# Altium integrated library Renesas Microprocessor SuperH.IntLib: 433 symbols (part 24 of 62)
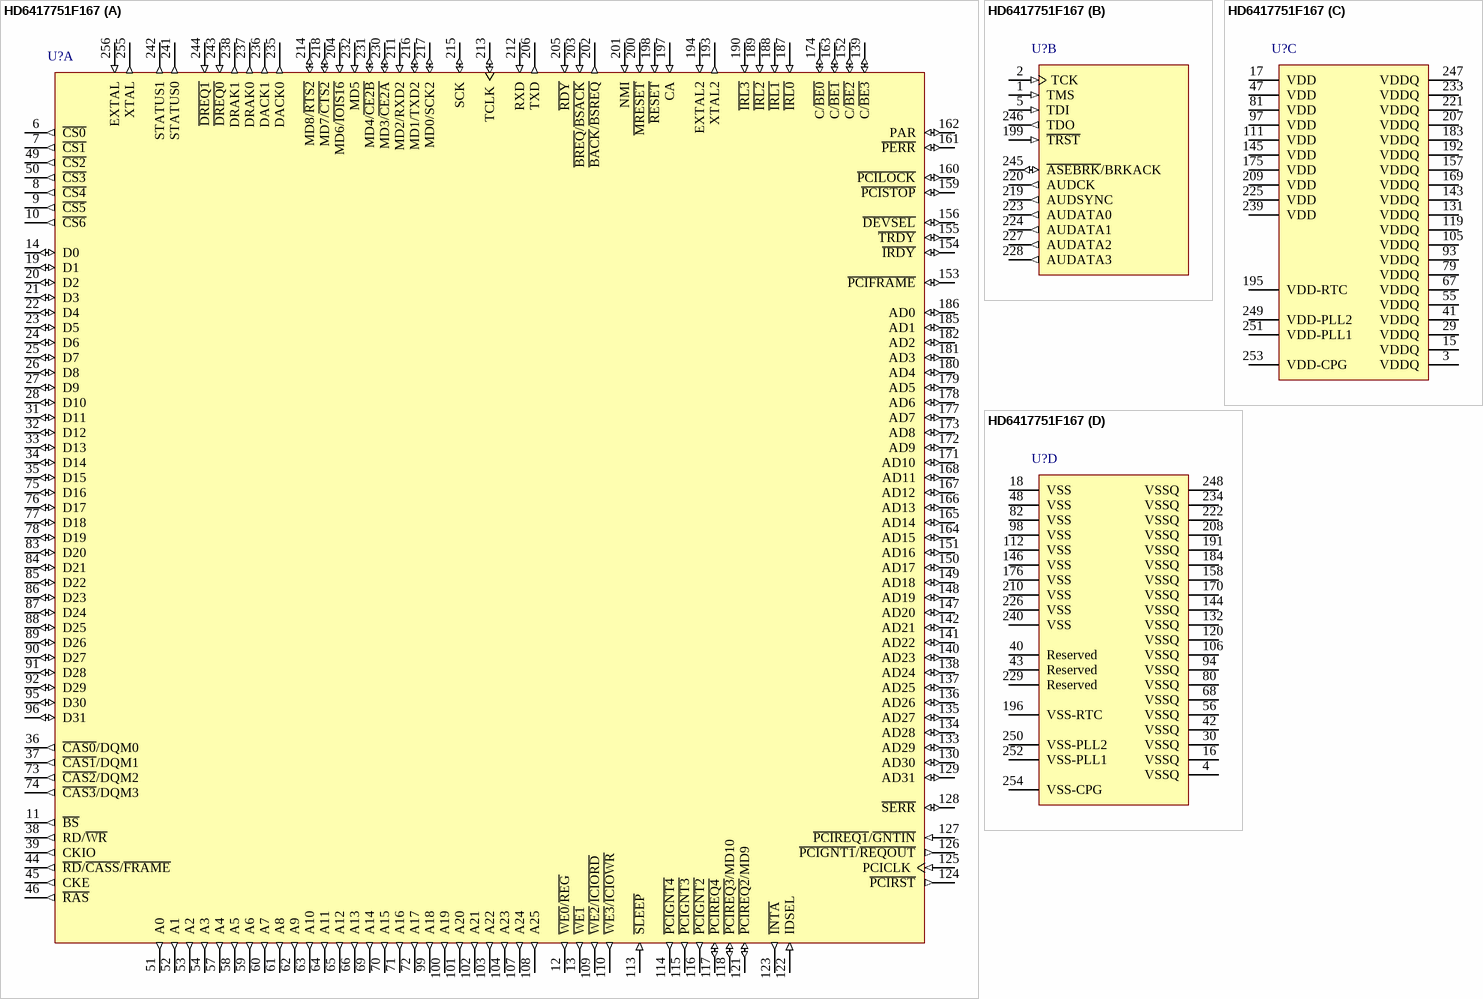
[diagram p396: symbol HD6417751F167]

## HD6417751F167
designator U?
32-Bit RISC Microcomputer, SH7750 Series, SH-4 core, 1.8V 167MHz, 256-pin QFP, -20 to 75°C; Published: 28-Aug-2009; DatasheetVersion: Rev.4.00, Oct-2008; PackageVersion: Sep-2005; PackageReference: PRQP0256LA-B; Publisher: Altium Limited; PackageDescription: 256-Pin Plastic Quad Flat Pack, 28 x 28 x 3.2 mm Body, 0.4 mm Pitch; Supplier 1: Digi-Key; Supplier Part Number 1: HD6417751F167-ND; Code_JEITA: P-HQFP256-28x28-0.40; ComponentLink1Description: Manufacturer Link; ComponentLink1URL: http://www.renesas.com/fmwk.jsp?cnt=sh7751_root.jsp&fp=/products/mpumcu/superh_family/sh7750_series/sh7751_group/; ComponentLink2Description: Datasheet; ComponentLink2URL: http://documentation.renesas.com/eng/products/mpumcu/rej09b0370_7751hm.pdf; ComponentLink3Description: Packaging Specification; ComponentLink3URL: http://sg.renesas.com/media/products/common_info/package/pdf/ic/code/prqp0256la_b.pdf
footprint PRQP0256LA-B_N (Shrink QFP, 256-Leads, Body 28x28mm, Pitch 0.4mm, IPC Medium Density)
footprint PRQP0256LA-B_L (Shrink QFP, 256-Leads, Body 28x28mm, Pitch 0.4mm, IPC High Density)
footprint PRQP0256LA-B_M (Shrink QFP, 256-Leads, Body 28x28mm, Pitch 0.4mm, IPC Low Density)
part A pins: 6 ~{CS0} (out) "Chip select 0", 7 ~{CS1} (out) "Chip select 1", 8 ~{CS4} (out) "Chip select 4", 9 ~{CS5} (out) "Chip select 5", 10 ~{CS6} (out) "Chip select 6", 11 ~{BS} (out) "Bus start", 12 ~{WE0}/~{REG} (out) "D7–D0 select signal", 13 ~{WE1} (out) "D15-D8 select signal", 14 D0 (io) "Data", 19 D1 (io) "Data", 20 D2 (io) "Data", 21 D3 (io) "Data", 22 D4 (io) "Data", 23 D5 (io) "Data", 24 D6 (io) "Data", 25 D7 (io) "Data", 26 D8 (io) "Data", 27 D9 (io) "Data", 28 D10 (io) "Data", 31 D11 (io) "Data", 32 D12 (io) "Data", 33 D13 (io) "Data", 34 D14 (io) "Data", 35 D15 (io) "Data", 36 ~{CAS0}/DQM0 (out) "D7–D0 select signal", 37 ~{CAS1}/DQM1 (out) "D15–D8 select signal", 38 RD/~{WR} (out) "Read/write", 39 CKIO (out) "Clock output", 44 ~{RD}/~{CASS}/~{FRAME} (out) "Read/CAS/FRAME", 45 CKE (out) "Clock output enable", 46 ~{RAS} (out) "RAS", 49 ~{CS2} (out) "Chip select 2", 50 ~{CS3} (out) "Chip select 3", 51 A0 (out) "Address", 52 A1 (out) "Address", 53 A2 (out) "Address", 54 A3 (out) "Address", 57 A4 (out) "Address", 58 A5 (out) "Address", 59 A6 (out) "Address", 60 A7 (out) "Address", 61 A8 (out) "Address", 62 A9 (out) "Address", 63 A10 (out) "Address", 64 A11 (out) "Address", 65 A12 (out) "Address", 66 A13 (out) "Address", 69 A14 (out) "Address", 70 A15 (out) "Address", 71 A16 (out) "Address", 72 A17 (out) "Address", 73 ~{CAS2}/DQM2 (out) "D23–D16 select signal", 74 ~{CAS3}/DQM3 (out) "D31–D24 select signal", 75 D16 (io) "Data", 76 D17 (io) "Data", 77 D18 (io) "Data", 78 D19 (io) "Data", 83 D20 (io) "Data", 84 D21 (io) "Data", 85 D22 (io) "Data", 86 D23 (io) "Data", 87 D24 (io) "Data", 88 D25 (io) "Data", 89 D26 (io) "Data", 90 D27 (io) "Data", 91 D28 (io) "Data", 92 D29 (io) "Data", 95 D30 (io) "Data", 96 D31 (io) "Data", 99 A18 (out) "Address", 100 A19 (out) "Address", 101 A20 (out) "Address", 102 A21 (out) "Address", 103 A22 (out) "Address", 104 A23 (out) "Address", 107 A24 (out) "Address", 108 A25 (out) "Address", 109 ~{WE2}/~{ICIORD} (out) "D23–D16 select signal", 110 ~{WE3}/~{ICIOWR} (out) "D31–D24 select signal", 113 ~{SLEEP} (in) "Sleep", 114 ~{PCIGNT4} (out) "Bus grant (host function)", 115 ~{PCIGNT3} (out) "Bus grant (host function)", 116 ~{PCIGNT2} (out) "Bus grant (host function)", 117 ~{PCIREQ4} (io) "Bus request (host function)", 118 ~{PCIREQ3}/MD10 (io) "Bus request (host function)/mode", 121 ~{PCIREQ2}/MD9 (io) "Bus request (host function)/mode", 122 IDSEL (in) "Configuration device select", 123 ~{INTA} (out) "Interrupt (async)", 124 ~{PCIRST} (out) "Reset output", 125 PCICLK (in) "PCI input clock", 126 ~{PCIGNT1}/~{REQOUT} (out) "Bus grant (host function)/bus request", 127 ~{PCIREQ1}/~{GNTIN} (in) "Bus request (host function)/bus grant", 128 ~{SERR} (io) "System error", 129 AD31 (io) "PCI address/data/port", 130 AD30 (io) "PCI address/data/port", 133 AD29 (io) "PCI address/data/port", 134 AD28 (io) "PCI address/data/port", 135 AD27 (io) "PCI address/data/port", 136 AD26 (io) "PCI address/data/port", 137 AD25 (io) "PCI address/data/port", 138 AD24 (io) "PCI address/data/port", 139 C/~{BE3} (io) "Command/byte enable", 140 AD23 (io) "PCI address/data/port", 141 AD22 (io) "PCI address/data/port", 142 AD21 (io) "PCI address/data/port", 147 AD20 (io) "PCI address/data/port", 148 AD19 (io) "PCI address/data/port", 149 AD18 (io) "PCI address/data/port", 150 AD17 (io) "PCI address/data/port", 151 AD16 (io) "PCI address/data/port", 152 C/~{BE2} (io) "Command/byte enable", 153 ~{PCIFRAME} (io) "Bus cycle", 154 ~{IRDY} (io) "Initiator ready", 155 ~{TRDY} (io) "Target ready", 156 ~{DEVSEL} (io) "Device select", 159 ~{PCISTOP} (io) "Transaction stop", 160 ~{PCILOCK} (io) "Exclusive access", 161 ~{PERR} (io) "Parity error", 162 PAR (io) "Parity", 163 C/~{BE1} (io) "Command/byte enable", 164 AD15 (io) "PCI address/data/port", 165 AD14 (io) "PCI address/data/port", 166 AD13 (io) "PCI address/data/port", 167 AD12 (io) "PCI address/data/port", 168 AD11 (io) "PCI address/data/port", 171 AD10 (io) "PCI address/data/port", 172 AD9 (io) "PCI address/data/port", 173 AD8 (io) "PCI address/data/port", 174 C/~{BE0} (io) "Command/byte enable", 177 AD7 (io) "PCI address/data/port", 178 AD6 (io) "PCI address/data/port", 179 AD5 (io) "PCI address/data/port", 180 AD4 (io) "PCI address/data/port", 181 AD3 (io) "PCI address/data/port", 182 AD2 (io) "PCI address/data/port", 185 AD1 (io) "PCI address/data/port", 186 AD0 (io) "PCI address/data/port", 187 ~{IRL0} (in) "Interrupt 0", 188 ~{IRL1} (in) "Interrupt 1", 189 ~{IRL2} (in) "Interrupt 2", 190 ~{IRL3} (in) "Interrupt 3", 193 XTAL2 (out) "RTC crystal resonator pin", 194 EXTAL2 (in) "RTC crystal resonator pin", 197 CA (in) "Hardware standby", 198 ~{RESET} (in) "Reset", 200 ~{MRESET} (in) "Manual reset", 201 NMI (in) "Nonmaskable interrupt", 202 ~{BACK}/~{BSREQ} (out) "Bus acknowledge/bus request", 203 ~{BREQ}/~{BSACK} (in) "Bus request/bus acknowledge", 204 MD6/~{IOIS16} (in) "Mode/IOIS16 (PCMCIA)", 205 ~{RDY} (in) "Bus ready", 206 TXD (out) "SCI data output", 211 MD2/RXD2 (in) "Mode/SCIF data input", 212 RXD (in) "SCI data input", 213 TCLK (io) "RTC/TMU clock", 214 MD8/~{RTS2} (io) "Mode/SCIF data control (RTS)", 215 SCK (io) "SCIF clock", 216 MD1/TXD2 (io) "Mode/SCIF data output", 217 MD0/SCK2 (io) "Mode/SCIF clock", 218 MD7/~{CTS2} (io) "Mode/SCIF data control (CTS)", 230 MD3/~{CE2A} (io) "Mode/PCMCIA-CE", 231 MD4/~{CE2B} (io) "Mode/PCMCIA-CE", 232 MD5 (in) "Mode", 235 DACK0 (out) "DMAC0 bus acknowledge", 236 DACK1 (out) "DMAC1 bus acknowledge", 237 DRAK0 (out) "DMAC0 request acknowledge", 238 DRAK1 (out) "DMAC1 request acknowledge", 241 STATUS0 (out) "Status", 242 STATUS1 (out) "Status", 243 ~{DREQ0} (in) "Request from DMAC0", 244 ~{DREQ1} (in) "Request from DMAC1", 255 XTAL (out) "Crystal resonator", 256 EXTAL (in) "External input clock/crystal resonator"
part B pins: 1 TMS (in) "Mode (H-UDI)", 2 TCK (in) "Clock (H-UDI)", 5 TDI (in) "Data in (H-UDI)", 199 ~{TRST} (in) "Reset (H-UDI)", 219 AUDSYNC (out) "AUDsync", 220 AUDCK (out) "AUDclock", 223 AUDATA0 (out) "AUDdata", 224 AUDATA1 (out) "AUDdata", 227 AUDATA2 (out) "AUDdata", 228 AUDATA3 (out) "AUDdata", 245 ~{ASEBRK}/BRKACK (io) "Pin break/acknowledge (H-UDI)", 246 TDO (out) "Data out (H-UDI)"
part C pins: 3 VDDQ (power) "IO VDD", 15 VDDQ (power) "IO VDD", 17 VDD (power) "Internal VDD", 29 VDDQ (power) "IO VDD", 41 VDDQ (power) "IO VDD", 47 VDD (power) "Internal VDD", 55 VDDQ (power) "IO VDD", 67 VDDQ (power) "IO VDD", 79 VDDQ (power) "IO VDD", 81 VDD (power) "Internal VDD", 93 VDDQ (power) "IO VDD", 97 VDD (power) "Internal VDD", 105 VDDQ (power) "IO VDD", 111 VDD (power) "Internal VDD", 119 VDDQ (power) "IO VDD", 131 VDDQ (power) "IO VDD", 143 VDDQ (power) "IO VDD", 145 VDD (power) "Internal VDD", 157 VDDQ (power) "IO VDD", 169 VDDQ (power) "IO VDD", 175 VDD (power) "Internal VDD", 183 VDDQ (power) "I/O VDD", 192 VDDQ (power) "I/O VDD", 195 VDD-RTC (power) "RTC VDD", 207 VDDQ (power) "IO VDD", 209 VDD (power) "Internal VDD", 221 VDDQ (power) "IO VDD", 225 VDD (power) "Internal VDD", 233 VDDQ (power) "IO VDD", 239 VDD (power) "Internal VDD", 247 VDDQ (power) "IO VDD", 249 VDD-PLL2 (power) "PLL2 VDD", 251 VDD-PLL1 (power) "PLL1 VDD", 253 VDD-CPG (power) "CPG VDD"
part D pins: 4 VSSQ (power) "IO GND", 16 VSSQ (power) "IO GND", 18 VSS (power) "Internal GND", 30 VSSQ (power) "IO GND", 40 Reserved "Do not connect", 42 VSSQ (power) "IO GND", 43 Reserved "Do not connect", 48 VSS (power) "Internal GND", 56 VSSQ (power) "IO GND", 68 VSSQ (power) "IO GND", 80 VSSQ (power) "IO GND", 82 VSS (power) "Internal GND", 94 VSSQ (power) "IO GND", 98 VSS (power) "Internal GND", 106 VSSQ (power) "IO GND", 112 VSS (power) "Internal GND", 120 VSSQ (power) "IO GND", 132 VSSQ (power) "IO GND", 144 VSSQ (power) "IO GND", 146 VSS (power) "Internal GND", 158 VSSQ (power) "IO GND", 170 VSSQ (power) "IO GND", 176 VSS (power) "Internal GND", 184 VSSQ (power) "I/O GND", 191 VSSQ (power) "I/O GND", 196 VSS-RTC (power) "RTC GND", 208 VSSQ (power) "IO GND", 210 VSS (power) "Internal GND", 222 VSSQ (power) "IO GND", 226 VSS (power) "Internal GND", 229 Reserved "Do not connect", 234 VSSQ (power) "IO GND", 240 VSS (power) "Internal GND", 248 VSSQ (power) "IO GND", 250 VSS-PLL2 (power) "PLL2 GND", 252 VSS-PLL1 (power) "PLL1 GND", 254 VSS-CPG (power) "CPG GND"

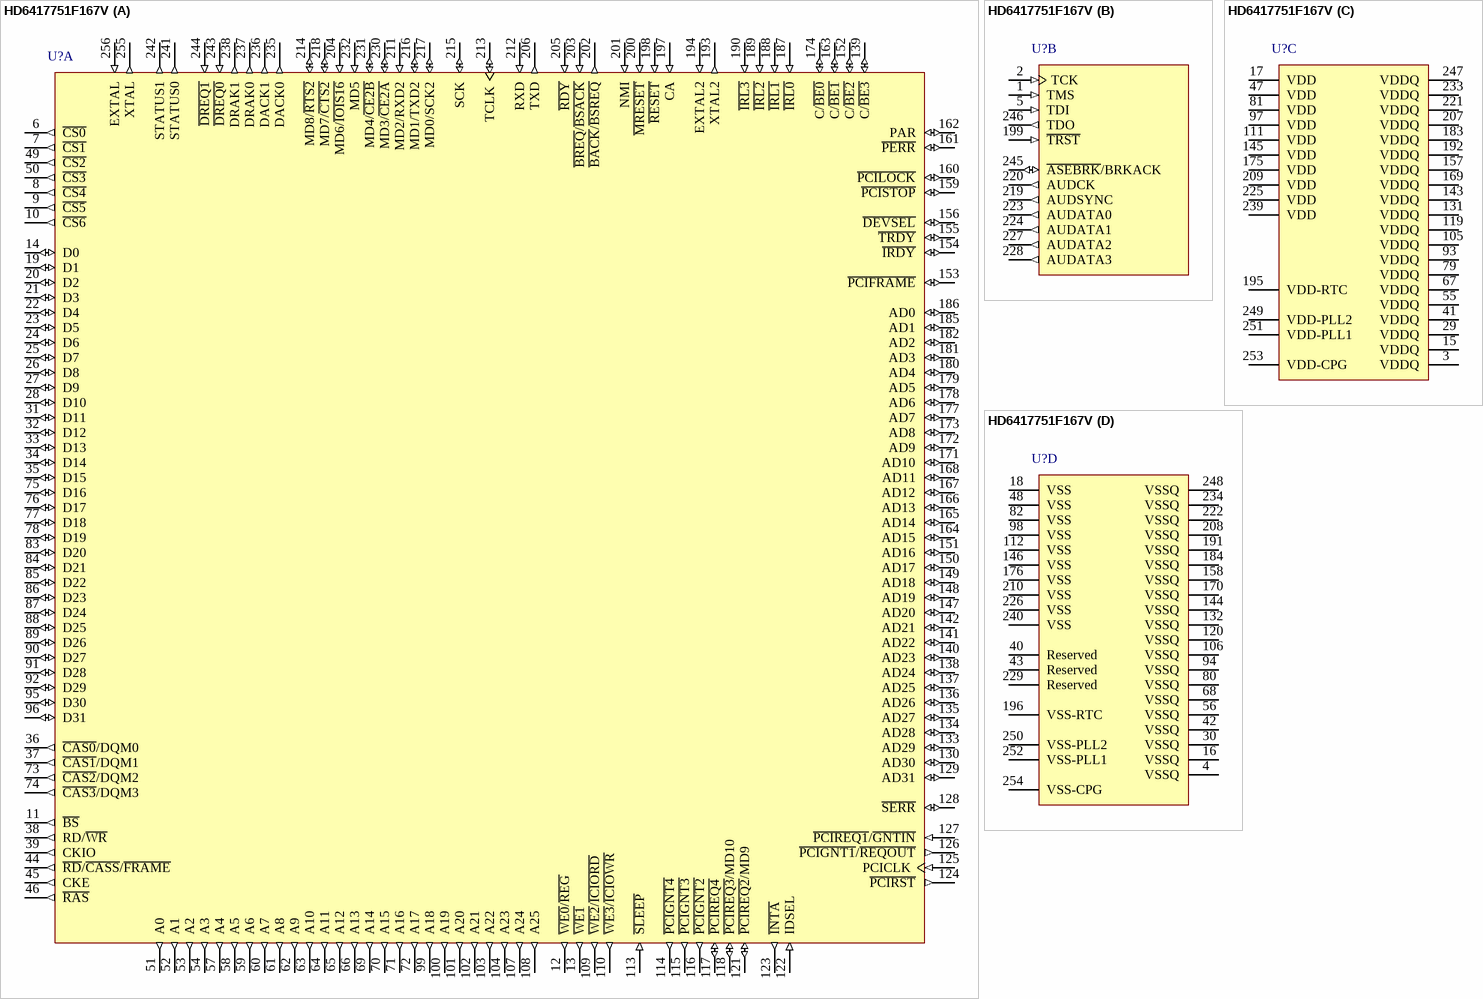
[diagram p89: symbol HD6417751F167V]